# Altium footprint library Wireless Modules.PcbLib: 2 footprints
Each footprint in its own frame and in the unit in brackets; x right, y up, seen from the top. Pads: shape width x height; smd on the part's side, far side on the other; paste and mask are expansions set on the pad; w line width, h text height; cw(c..) or ccw(c..) is an arc to the next point about the centre after c.
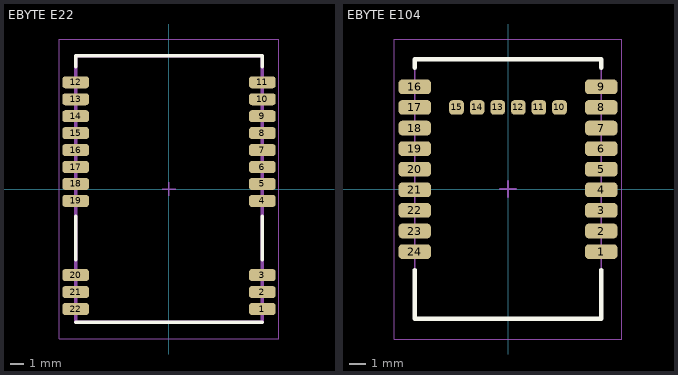
[diagram p0: the footprints below, top view; thin cyan lines are the x and y axes]

## EBYTE E22 [mm]
height 3
pads (22):
  rrect50% 2x0.9 smd: 1(7,-9) 2(7,-7.73) 3(7,-6.46) 4(7,-0.89) 5(7,0.38) 6(7,1.65) 7(7,2.92) 8(7,4.19) 9(7,5.46) 10(7,6.73) 11(7,8) 12(-7,8) 13(-7,6.73) 14(-7,5.46) 15(-7,4.19) 16(-7,2.92) 17(-7,1.65) 18(-7,0.38) 19(-7,-0.89) 20(-7,-6.46) 21(-7,-7.73) 22(-7,-9)
Top Overlay:
  lines w0.254: -7,-10 7,-10 ; -7,-5.3 -7,-2.05 ; -7,9.175 -7,10 7,10 7,9.175 ; 7,-5.3 7,-2.05
Mechanical 13:
  lines w0.254: -7,-10 7,-10 7,10 -7,10 -7,-10
Mechanical 15:
  lines w0.05: -8.25,-11.25 8.25,-11.25 8.25,11.25 -8.25,11.25 -8.25,-11.25
  lines w0.1: -0.5,0 0.5,0 ; 0,-0.5 0,0.5
3D body "E22.SLDPRT": height 3, standoff 0, extent -7,-10 7,10

## EBYTE E104 [mm]
pads (24):
  rrect50% 2x0.9 smd: 1(5.75,-3.86) 2(5.75,-2.59) 3(5.75,-1.32) 4(5.75,-0.05) 5(5.75,1.22) 6(5.75,2.49) 7(5.75,3.76) 8(5.75,5.03) 9(5.75,6.3) 16(-5.75,6.3) 17(-5.75,5.03) 18(-5.75,3.76) 19(-5.75,2.49) 20(-5.75,1.22) 21(-5.75,-0.05) 22(-5.75,-1.32) 23(-5.75,-2.59) 24(-5.75,-3.86)
  rrect50% 0.9x0.9 smd: 10(3.175,5.03) 11(1.905,5.03) 12(0.635,5.03) 13(-0.635,5.03) 14(-1.905,5.03) 15(-3.175,5.03)
Top Overlay:
  lines w0.254: -5.75,-5 -5.75,-8 5.75,-8 5.75,-5 ; -5.75,7.475 -5.75,8 5.75,8 5.75,7.475
Mechanical 13:
  lines w0.1: -5.75,-8 -5.75,8 5.75,8 5.75,-8 -5.75,-8
Mechanical 15:
  lines w0.05: -7,-9.25 -7,9.25 7,9.25 7,-9.25 -7,-9.25
  lines w0.1: -0.5,0 0.5,0 ; 0,-0.5 0,0.5
3D body "E104.SLDPRT": height 2.32, standoff 0, extent -5.75,-8 5.75,8